# Altium integrated library Altera Megafunctions FPGA.IntLib: 91 symbols
Pins are listed as number, name and electrical type; pins without a type are passive.

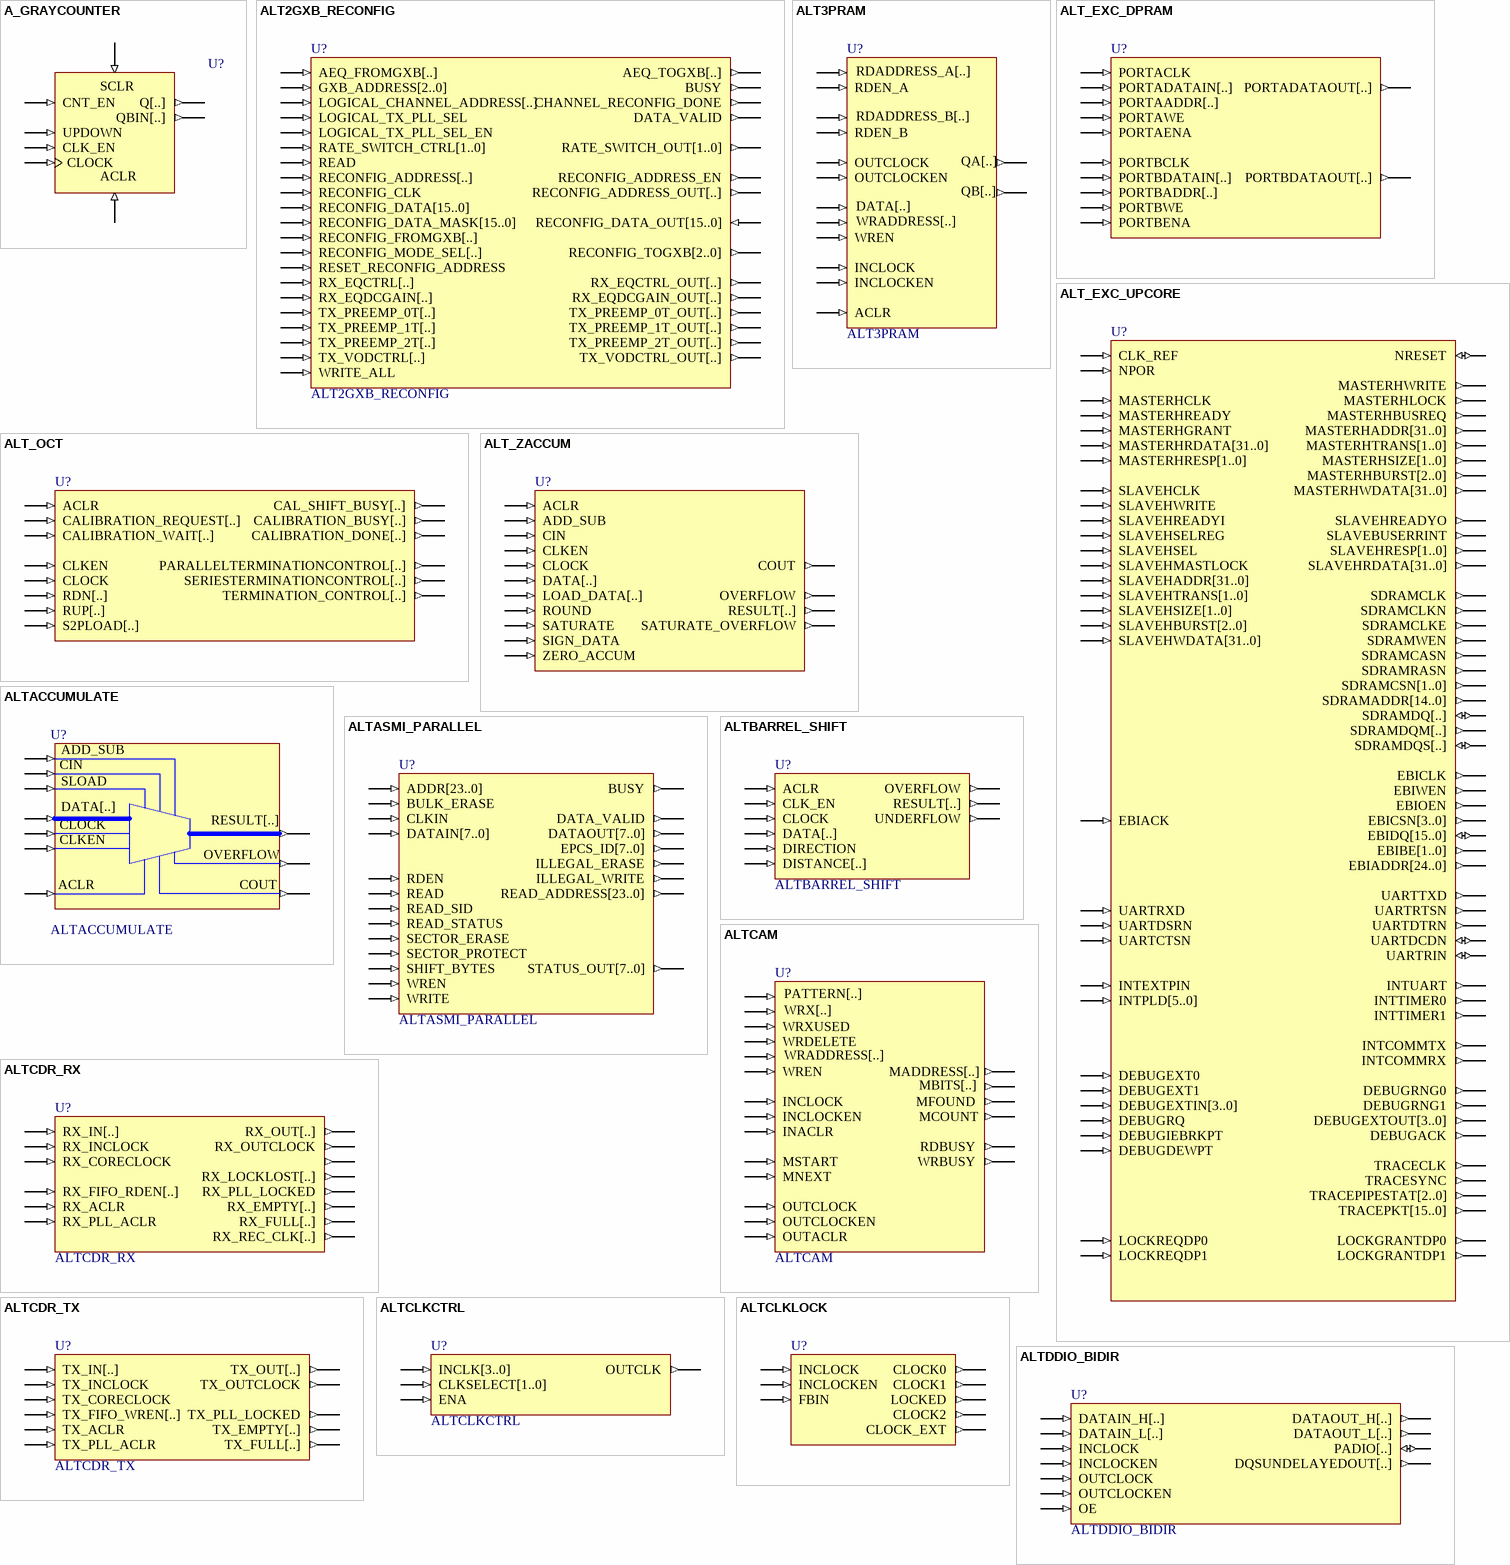
[diagram p0: symbols A_GRAYCOUNTER to ALTDDIO_BIDIR]

## A_GRAYCOUNTER
designator U?
Gray Counter; FPGAVendor: Altera; Published: 1-Jun-2007; Publisher: Altium Limited
pins: ACLR (in), CLK_EN (in), CLOCK (in), CNT_EN (in), Q[..] (out), QBIN[..] (out), SCLR (in), UPDOWN (in)

## ALT2GXB_RECONFIG
designator U?
GXB Reconfig; FPGAVendor: Altera; Published: 1-Jun-2007; Publisher: Altium Limited; HelpURL: http://www.altera.com/literature/hb/stx2gx/stxiigx_sii52006.pdf
pins: AEQ_FROMGXB[..] (in), AEQ_TOGXB[..] (out), BUSY (out), CHANNEL_RECONFIG_DONE (out), DATA_VALID (out), GXB_ADDRESS[2..0] (in), LOGICAL_CHANNEL_ADDRESS[..] (in), LOGICAL_TX_PLL_SEL (in), LOGICAL_TX_PLL_SEL_EN (in), LOGICAL_TX_PLL_SEL_EN[1..0] RATE_SWITCH_CTRL[1..0] (in), RATE_SWITCH_OUT[1..0] (out), READ (in), RECONFIG_ADDRESS[..] (in), RECONFIG_ADDRESS_EN (out), RECONFIG_ADDRESS_OUT[..] (out), RECONFIG_CLK (in), RECONFIG_DATA[15..0] (in), RECONFIG_DATA_MASK[15..0] (in), RECONFIG_DATA_OUT[15..0] (in), RECONFIG_FROMGXB[..] (in), RECONFIG_MODE_SEL[..] (in), RECONFIG_TOGXB[2..0] (out), RESET_RECONFIG_ADDRESS (in), RX_EQCTRL[..] (in), RX_EQCTRL_OUT[..] (out), RX_EQDCGAIN[..] (in), RX_EQDCGAIN_OUT[..] (out), TX_PREEMP_0T[..] (in), TX_PREEMP_0T_OUT[..] (out), TX_PREEMP_1T[..] (in), TX_PREEMP_1T_OUT[..] (out), TX_PREEMP_2T[..] (in), TX_PREEMP_2T_OUT[..] (out), TX_VODCTRL[..] (in), TX_VODCTRL_OUT[..] (out), WRITE_ALL (in)

## ALT3PRAM
designator U?
Triple port RAM; FPGAVendor: Altera; Published: 1-Jun-2007; Publisher: Altium Limited; HelpURL: http://www.altera.com/literature/hb/sgx/sgx_v3.pdf
pins: ACLR (in), DATA[..] (in), INCLOCK (in), INCLOCKEN (in), OUTCLOCK (in), OUTCLOCKEN (in), QA[WIDTH-1..0] QA[..] (out), QB[WIDTH-1..0] QB[..] (out), RDADDRESS_A[..] (in), RDADDRESS_B[..] (in), RDEN_A (in), RDEN_B (in), WRADDRESS[..] (in), WREN (in)

## ALT_EXC_DPRAM
designator U?
FPGAVendor: Altera; Published: 1-Jun-2007; Publisher: Altium Limited; HelpURL: HelpURL:HelpURL:http://www.altera.com/support/kdb/2002/06/rd06282002_6706.html
pins: PORTAADDR[..] (in), PORTACLK (in), PORTADATAIN[..] (in), PORTADATAOUT[..] (out), PORTAENA (in), PORTAWE (in), PORTBADDR[..] (in), PORTBCLK (in), PORTBDATAIN[..] (in), PORTBDATAOUT[..] (out), PORTBENA (in), PORTBWE (in)

## ALT_EXC_UPCORE
designator U?
Bus functional model instance; FPGAVendor: Altera; Published: 1-Jun-2007; Publisher: Altium Limited; HelpURL: http://www.altera.com/literature/ug/ug_bus_functional_model.pdf
pins: CLK_REF (in), DEBUGACK (out), DEBUGDEWPT (in), DEBUGEXT0 (in), DEBUGEXT1 (in), DEBUGEXTIN[3..0] (in), DEBUGEXTOUT[3..0] (out), DEBUGIEBRKPT (in), DEBUGRNG0 (out), DEBUGRNG1 (out), DEBUGRQ (in), EBIACK (in), EBIADDR[24..0] (out), EBIBE[1..0] (out), EBICLK (out), EBICSN[3..0] (out), EBIDQ[15..0] (io), EBIOEN (out), EBIWEN (out), INTCOMMRX (out), INTCOMMTX (out), INTEXTPIN (in), INTPLD[5..0] (in), INTTIMER0 (out), INTTIMER1 (out), INTUART (out), LOCKGRANTDP0 (out), LOCKGRANTDP1 (out), LOCKREQDP0 (in), LOCKREQDP1 (in), MASTERHADDR[31..0] (out), MASTERHBURST[2..0] (out), MASTERHBUSREQ (out), MASTERHCLK (in), MASTERHGRANT (in), MASTERHLOCK (out), MASTERHRDATA[31..0] (in), MASTERHREADY (in), MASTERHRESP[1..0] (in), MASTERHSIZE[1..0] (out), MASTERHTRANS[1..0] (out), MASTERHWDATA[31..0] (out), MASTERHWRITE (out), NPOR (in), NRESET (io), SDRAMADDR[14..0] (out), SDRAMCASN (out), SDRAMCLK (out), SDRAMCLKE (out), SDRAMCLKN (out), SDRAMCSN[1..0] (out), SDRAMDQ[..] (io), SDRAMDQM[..] (out), SDRAMDQS[..] (io), SDRAMRASN (out), SDRAMWEN (out), SLAVEBUSERRINT (out), SLAVEHADDR[31..0] (in), SLAVEHBURST[2..0] (in), SLAVEHCLK (in), SLAVEHMASTLOCK (in), SLAVEHRDATA[31..0] (out), SLAVEHREADYI (in), SLAVEHREADYO (out), SLAVEHRESP[1..0] (out), SLAVEHSEL (in), SLAVEHSELREG (in), SLAVEHSIZE[1..0] (in), SLAVEHTRANS[1..0] (in), SLAVEHWDATA[31..0] (in), SLAVEHWRITE (in), TRACECLK (out), TRACEPIPESTAT[2..0] (out), TRACEPKT[15..0] (out), TRACESYNC (out), UARTCTSN (in), UARTDCDN (io), UARTDSRN (in), UARTDTRN (out), UARTRIN (io), UARTRTSN (out), UARTRXD (in), UARTTXD (out)

## ALT_OCT
designator U?
On -Chip Termination; FPGAVendor: Altera; Published: 1-Jun-2007; Publisher: Altium Limited; HelpURL: http://www.altera.com/literature/ug/ALT_OCT.pdf
pins: ACLR (in), CAL_SHIFT_BUSY[..] (out), CALIBRATION_BUSY[..] (out), CALIBRATION_DONE[..] (out), CALIBRATION_REQUEST[..] (in), CALIBRATION_WAIT[..] (in), CLKEN (in), CLOCK (in), PARALLELTERMINATIONCONTROL[..] (out), RDN[..] (in), RUP[..] (in), S2PLOAD[..] (in), SERIESTERMINATIONCONTROL[..] (out), TERMINATION_CONTROL[..] (out)

## ALT_ZACCUM
designator U?
ALT_ZACCUM; FPGAVendor: Altera; Published: 1-Jun-2007; Publisher: Altium Limited
pins: ACLR (in), ADD_SUB (in), CIN (in), CLKEN (in), CLOCK (in), COUT (out), DATA[..] (in), LOAD_DATA[..] (in), OVERFLOW (out), RESULT[..] (out), ROUND (in), SATURATE (in), SATURATE_OVERFLOW (out), SIGN_DATA (in), ZERO_ACCUM (in)

## ALTACCUMULATE
designator U?
Accumulator; FPGAVendor: Altera; Published: 1-Jun-2007; Publisher: Altium Limited; HelpURL: http://www.altera.com/literature/ug/ug_altaccum.pdf
pins: ACLR (in), ADD_SUB (in), CIN (in), CLKEN (in), CLOCK (in), COUT (out), DATA[..] (in), OVERFLOW (out), RESULT[..] (out), SLOAD (in)

## ALTASMI_PARALLEL
designator U?
Active Serial Memory Interface; FPGAVendor: Altera; Published: 1-Jun-2007; Publisher: Altium Limited; HelpURL: http://www.altera.com/literature/ug/mfug_asmi.pdf
pins: ADDR[23..0] (in), BULK_ERASE (in), BUSY (out), CLKIN (in), DATA_VALID (out), DATAIN[7..0] (in), DATAOUT[7..0] (out), EPCS_ID[7..0] (out), ILLEGAL_ERASE (out), ILLEGAL_WRITE (out), RDEN (in), READ (in), READ_ADDRESS[23..0] (out), READ_SID (in), READ_STATUS (in), SECTOR_ERASE (in), SECTOR_PROTECT (in), SHIFT_BYTES (in), STATUS_OUT[7..0] (out), WREN (in), WRITE (in)

## ALTBARREL_SHIFT
designator U?
Barrel Shifter; FPGAVendor: Altera; Published: 1-Jun-2007; Publisher: Altium Limited
pins: ACLR (in), CLK_EN (in), CLOCK (in), DATA[..] (in), DIRECTION (in), DISTANCE[..] (in), OVERFLOW (out), RESULT[..] (out), UNDERFLOW (out)

## ALTCAM
designator U?
Content - Addressable Memory; FPGAVendor: Altera; Published: 1-Jun-2007; Publisher: Altium Limited; HelpURL: http://www.altera.com/support/software/nativelink/quartus2/glossary/def_cam.html
pins: INACLR (in), INCLOCK (in), INCLOCKEN (in), MADDRESS[..] (out), MBITS[..] (out), MCOUNT[..] (out), MFOUND (out), MNEXT (in), MSTART (in), OUTACLR (in), OUTCLOCK (in), OUTCLOCKEN (in), PATTERN[..] (in), RDBUSY (out), WRADDRESS[..] (in), WRBUSY (out), WRDELETE (in), WREN (in), WRX[..] (in), WRXUSED (in)
text: MCOUNT

## ALTCDR_RX
designator U?
Clock Data Recovery Receiver; FPGAVendor: Altera; Published: 1-Jun-2007; Publisher: Altium Limited; HelpURL: http://www.altera.com/support/software/nativelink/verification/conformal/eda_gid_lec_fv.html
pins: RX_ACLR (in), RX_CORECLOCK (in), RX_EMPTY[..] (out), RX_FIFO_RDEN[..] (in), RX_FULL[..] (out), RX_IN[..] (in), RX_INCLOCK (in), RX_LOCKLOST[..] (out), RX_OUT[..] (out), RX_OUTCLOCK (out), RX_PLL_ACLR (in), RX_PLL_LOCKED (out), RX_REC_CLK[..] (out), RX_RLV[..] (out)

## ALTCDR_TX
designator U?
Clock Data Recovery Transmitter; FPGAVendor: Altera; Published: 1-Jun-2007; Publisher: Altium Limited; HelpURL: http://www.altera.com/support/software/nativelink/verification/conformal/eda_gid_lec_fv.html
pins: TX_ACLR (in), TX_CORECLOCK (in), TX_EMPTY[..] (out), TX_FIFO_WREN[..] (in), TX_FULL[..] (out), TX_IN[..] (in), TX_INCLOCK (in), TX_OUT[..] (out), TX_OUTCLOCK (out), TX_PLL_ACLR (in), TX_PLL_LOCKED (out)

## ALTCLKCTRL
designator U?
Clock control block; FPGAVendor: Altera; Published: 1-Jun-2007; Publisher: Altium Limited; HelpURL: http://www.altera.com/literature/ug/ug_altclock.pdf
pins: CLKSELECT[1..0] (in), ENA (in), INCLK[3..0] (in), OUTCLK (out)

## ALTCLKLOCK
designator U?
Phase-Locked Loop; FPGAVendor: Altera; Published: 1-Jun-2007; Publisher: Altium Limited; HelpURL: http://www.altera.com/literature/hb/stx/stratix_section_5_vol_2.pdf
pins: CLOCK0 (out), CLOCK1 (out), CLOCK2 (out), CLOCK_EXT (out), FBIN (in), INCLOCK (in), INCLOCKEN (in), LOCKED (out)

## ALTDDIO_BIDIR
designator U?
DDR Bidirectional; FPGAVendor: Altera; Published: 1-Jun-2007; Publisher: Altium Limited; HelpURL: http://www.altera.com/literature/ug/ug_altddio.pdf
pins: DATAIN_H[..] (in), DATAIN_L[..] (in), DATAOUT_H[..] (out), DATAOUT_L[..] (out), DQSUNDELAYEDOUT[..] (out), INCLOCK (in), INCLOCKEN (in), OE (in), OUTCLOCK (in), OUTCLOCKEN (in), PADIO[..] (io)

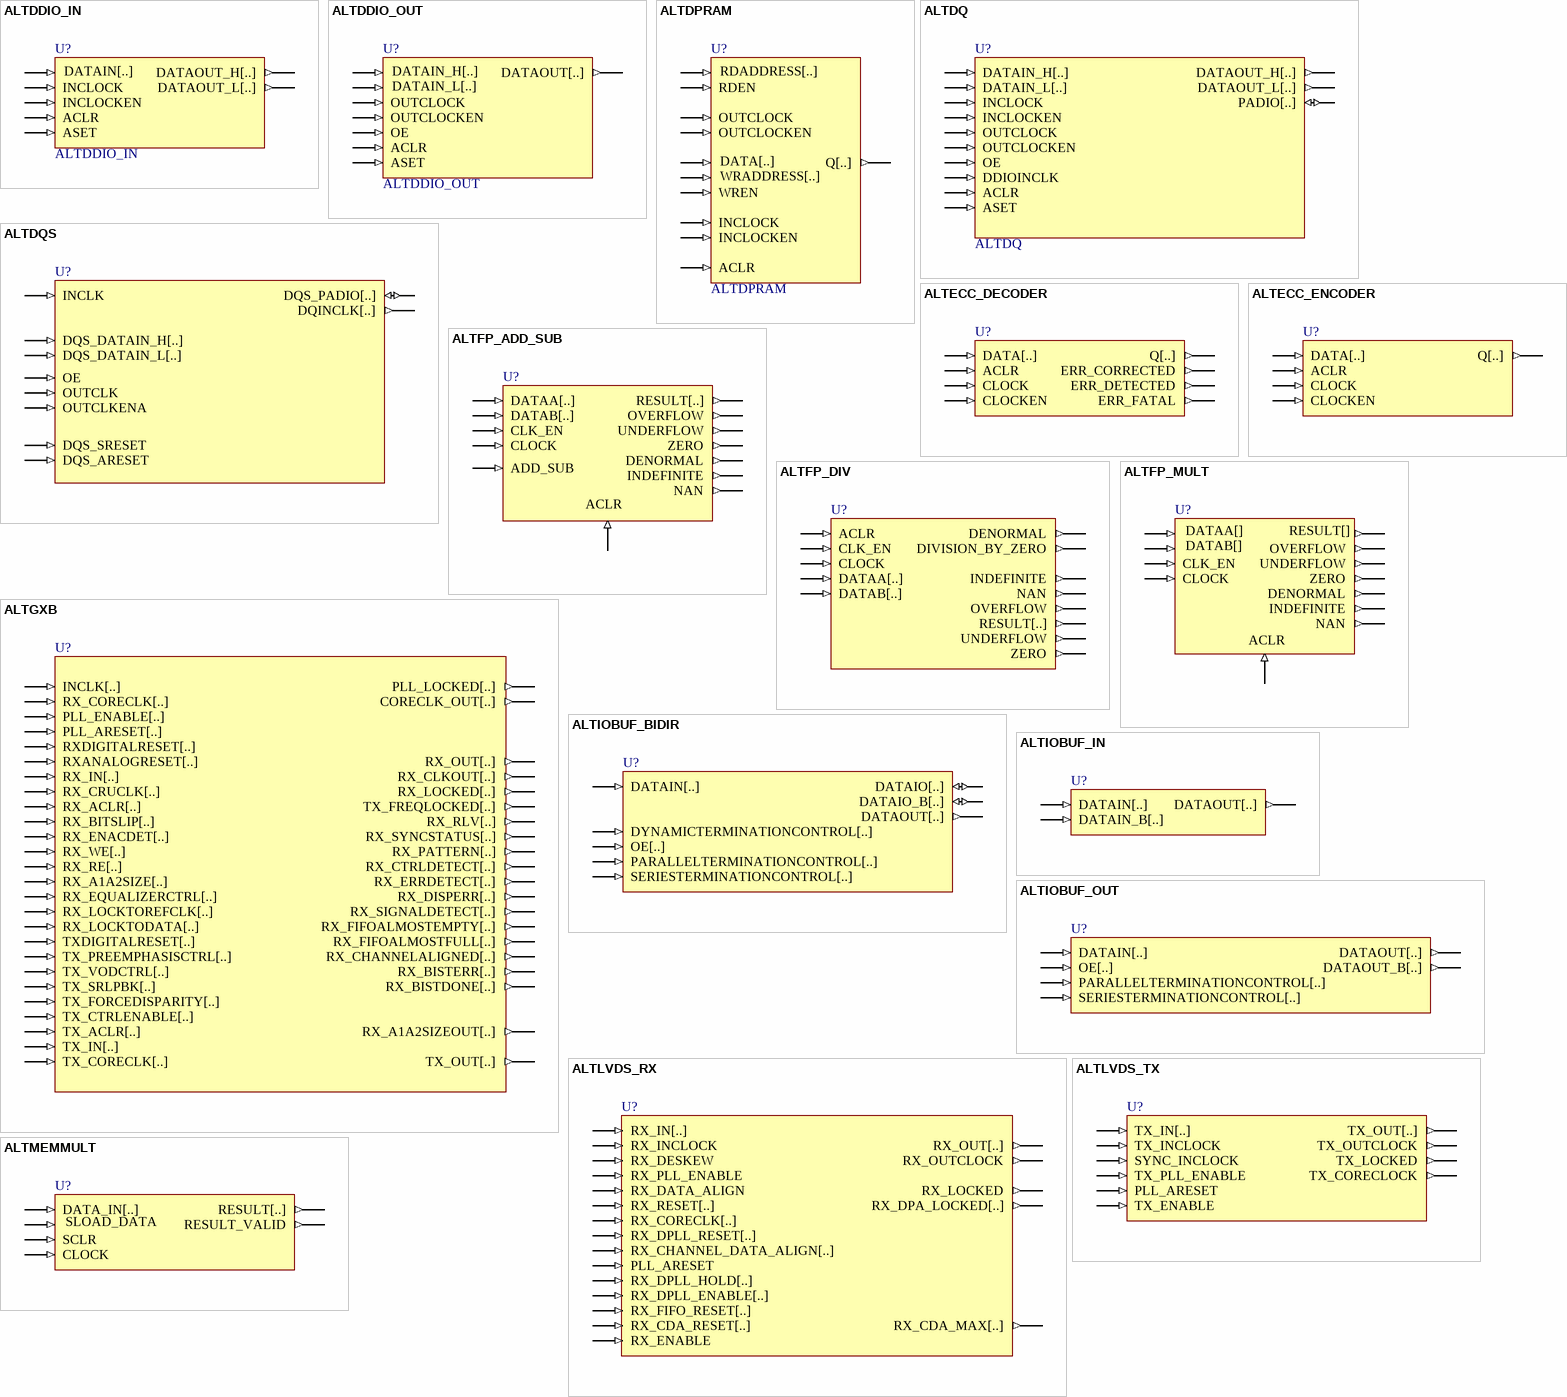
[diagram p1: symbols ALTDDIO_IN to ALTMEMMULT]

## ALTDDIO_IN
designator U?
DDR Input; FPGAVendor: Altera; Published: 1-Jun-2007; Publisher: Altium Limited; HelpURL: http://www.altera.com/literature/ug/ug_altddio.pdf
pins: ACLR (in), ASET (in), DATAIN[..] (in), DATAOUT_H[..] (out), DATAOUT_L[..] (out), INCLOCK (in), INCLOCKEN (in)

## ALTDDIO_OUT
designator U?
DDR Output; FPGAVendor: Altera; Published: 1-Jun-2007; Publisher: Altium Limited; HelpURL: http://www.altera.com/literature/ug/ug_altddio.pdf
pins: ACLR (in), ASET (in), DATAIN_H[..] (in), DATAIN_L[..] (in), DATAOUT[..] (out), OE (in), OUTCLOCK (in), OUTCLOCKEN (in)

## ALTDPRAM
designator U?
Dual-Port RAM; FPGAVendor: Altera; Published: 1-Jun-2007; Publisher: Altium Limited; HelpURL: http://www.altera.com/support/software/nativelink/verification/conformal/eda_gid_lec_fv.html
pins: ACLR (in), DATA[..] (in), INCLOCK (in), INCLOCKEN (in), OUTCLOCK (in), OUTCLOCKEN (in), Q[..] (out), RDADDRESS[..] (in), RDEN (in), WRADDRESS[..] (in), WREN (in)

## ALTDQ
designator U?
To configure the Double Data Rate I/O elements in Stratix and cycone II devices; FPGAVendor: Altera; Published: 1-Jun-2007; Publisher: Altium Limited; HelpURL: http://www.altera.com/literature/ug/ug_altdq_dqs.pdf
pins: ACLR (in), ASET (in), DATAIN_H[..] (in), DATAIN_L[..] (in), DATAOUT_H[..] (out), DATAOUT_L[..] (out), DDIOINCLK (in), INCLOCK (in), INCLOCKEN (in), OE (in), OUTCLOCK (in), OUTCLOCKEN (in), PADIO[..] (io)

## ALTDQS
designator U?
To configure the I/O elements as a DQ strobe in Stratix and cycone II devices; FPGAVendor: Altera; Published: 1-Jun-2007; Publisher: Altium Limited; HelpURL: http://www.altera.com/literature/ug/ug_altdq_dqs.pdf
pins: DQINCLK[..] (out), DQS_ARESET (in), DQS_DATAIN_H[..] (in), DQS_DATAIN_L[..] (in), DQS_PADIO[..] (io), DQS_SRESET (in), INCLK (in), OE (in), OUTCLK (in), OUTCLKENA (in)

## ALTECC_DECODER
designator U?
Error Correction Code Decoder; FPGAVendor: Altera; Published: 1-Jun-2007; Publisher: Altium Limited; HelpURL: http://www.altera.com/literature/ug/ug_altecc.pdf
pins: ACLR (in), CLOCK (in), CLOCKEN (in), DATA[..] (in), ERR_CORRECTED (out), ERR_DETECTED (out), ERR_FATAL (out), Q[..] (out)

## ALTECC_ENCODER
designator U?
Error Correction Code Encoder; FPGAVendor: Altera; Published: 1-Jun-2007; Publisher: Altium Limited; HelpURL: http://www.altera.com/literature/ug/ug_altecc.pdf
pins: ACLR (in), CLOCK (in), CLOCKEN (in), DATA[..] (in), Q[..] (out)

## ALTFP_ADD_SUB
designator U?
Floating point Adder/Subractor; FPGAVendor: Altera; Published: 1-Jun-2007; Publisher: Altium Limited; HelpURL: http://www.altera.com/literature/ug/ug_altfp_adsub.pdf
pins: ACLR (in), ADD_SUB (in), CLK_EN (in), CLOCK (in), DATAA[..] (in), DATAB[..] (in), DENORMAL (out), INDEFINITE (out), NAN (out), OVERFLOW (out), RESULT[..] (out), UNDERFLOW (out), ZERO (out)

## ALTFP_DIV
designator U?
Divion Function; FPGAVendor: Altera; Published: 1-Jun-2007; Publisher: Altium Limited; HelpURL: http://www.altera.com/literature/ug/ug_altfp_div.pdf
pins: ACLR (in), CLK_EN (in), CLOCK (in), DATAA[..] (in), DATAB[..] (in), DENORMAL (out), DIVISION_BY_ZERO (out), INDEFINITE (out), NAN (out), OVERFLOW (out), RESULT[..] (out), UNDERFLOW (out), ZERO (out)

## ALTFP_MULT
designator U?
Floating point Multiplier; FPGAVendor: Altera; Published: 1-Jun-2007; Publisher: Altium Limited; HelpURL: http://www.altera.com/support/software/nativelink/verification/conformal/eda_gid_lec_fv.html
pins: ACLR (in), CLK_EN (in), CLOCK (in), DATAA[..] (in), DATAB[..] (in), DENORMAL (out), INDEFINITE (out), NAN (out), OVERFLOW (out), RESULT[..] (out), UNDERFLOW (out), ZERO (out)
text: DATAA[]; RESULT[]; DATAB[]

## ALTGXB
designator U?
Gigabit Transceiver Block; FPGAVendor: Altera; Published: 1-Jun-2007; Publisher: Altium Limited; HelpURL: http://www.altera.com/support/software/nativelink/verification/conformal/eda_gid_lec_fv.html
pins: CORECLK_OUT[..] (out), INCLK[..] (in), PLL_ARESET[..] (in), PLL_ENABLE[..] (in), PLL_LOCKED[..] (out), RX_A1A2SIZE[..] (in), RX_A1A2SIZEOUT[..] (out), RX_ACLR[..] (in), RX_BISTDONE[..] (out), RX_BISTERR[..] (out), RX_BITSLIP[..] (in), RX_CHANNELALIGNED[..] (out), RX_CLKOUT[..] (out), RX_CORECLK[..] (in), RX_CRUCLK[..] (in), RX_CTRLDETECT[..] (out), RX_DISPERR[..] (out), RX_ENACDET[..] (in), RX_EQUALIZERCTRL[..] (in), RX_ERRDETECT[..] (out), RX_FIFOALMOSTEMPTY[..] (out), RX_FIFOALMOSTFULL[..] (out), RX_IN[..] (in), RX_LOCKED[..] (out), RX_LOCKTODATA[..] (in), RX_LOCKTOREFCLK[..] (in), RX_OUT[..] (out), RX_PATTERN[..] (out), RX_RE[..] (in), RX_RLV[..] (out), RX_SIGNALDETECT[..] (out), RX_SYNCSTATUS[..] (out), RX_WE[..] (in), RXANALOGRESET[..] (in), RXDIGITALRESET[..] (in), TX_ACLR[..] (in), TX_CORECLK[..] (in), TX_CTRLENABLE[..] (in), TX_FORCEDISPARITY[..] (in), TX_FREQLOCKED[..] (out), TX_IN[..] (in), TX_OUT[..] (out), TX_PREEMPHASISCTRL[..] (in), TX_SRLPBK[..] (in), TX_VODCTRL[..] (in), TXDIGITALRESET[..] (in)

## ALTIOBUF_BIDIR
designator U?
IO Buffer; FPGAVendor: Altera; Published: 1-Jun-2007; Publisher: Altium Limited
pins: DATAIN[..] (in), DATAIO[..] (io), DATAIO_B[..] (io), DATAOUT[..] (out), DYNAMICTERMINATIONCONTROL[..] (in), OE[..] (in), PARALLELTERMINATIONCONTROL[..] (in), SERIESTERMINATIONCONTROL[..] (in)

## ALTIOBUF_IN
designator U?
Input Buffer; FPGAVendor: Altera; Published: 1-Jun-2007; Publisher: Altium Limited
pins: DATAIN[..] (in), DATAIN_B[..] (in), DATAOUT[..] (out)

## ALTIOBUF_OUT
designator U?
Input Buffer; FPGAVendor: Altera; Published: 1-Jun-2007; Publisher: Altium Limited
pins: DATAIN[..] (in), DATAOUT[..] (out), DATAOUT_B[..] (out), OE[..] (in), PARALLELTERMINATIONCONTROL[..] (in), SERIESTERMINATIONCONTROL[..] (in)

## ALTLVDS_RX
designator U?
LVDS Receiver; FPGAVendor: Altera; Published: 1-Jun-2007; Publisher: Altium Limited; HelpURL: http://www.altera.com/literature/ug/ug_IP_LVDS_IO.pdf
pins: PLL_ARESET (in), RX_CDA_MAX[..] (out), RX_CDA_RESET[..] (in), RX_CHANNEL_DATA_ALIGN[..] (in), RX_CORECLK[..] (in), RX_DATA_ALIGN (in), RX_DESKEW (in), RX_DPA_LOCKED[..] (out), RX_DPLL_ENABLE[..] (in), RX_DPLL_HOLD[..] (in), RX_DPLL_RESET[..] (in), RX_ENABLE (in), RX_FIFO_RESET[..] (in), RX_IN[..] (in), RX_INCLOCK (in), RX_LOCKED (out), RX_OUT[..] (out), RX_OUTCLOCK (out), RX_PLL_ENABLE (in), RX_RESET[..] (in)

## ALTLVDS_TX
designator U?
LVDS Transmitter; FPGAVendor: Altera; Published: 1-Jun-2007; Publisher: Altium Limited; HelpURL: http://www.altera.com/literature/ug/ug_IP_LVDS_IO.pdf
pins: PLL_ARESET (in), SYNC_INCLOCK (in), TX_CORECLOCK (out), TX_ENABLE (in), TX_IN[..] (in), TX_INCLOCK (in), TX_LOCKED (out), TX_OUT[..] (out), TX_OUTCLOCK (out), TX_PLL_ENABLE (in)

## ALTMEMMULT
designator U?
Multipier using M4K or M512 Memory Blocks; FPGAVendor: Altera; Published: 1-Jun-2007; Publisher: Altium Limited; HelpURL: http://www.altera.com/literature/ug/ug_altmemmult.pdf
pins: CLOCK (in), DATA_IN[..] (in), RESULT[..] (out), RESULT_VALID (out), SCLR (in), SLOAD_DATA (in)

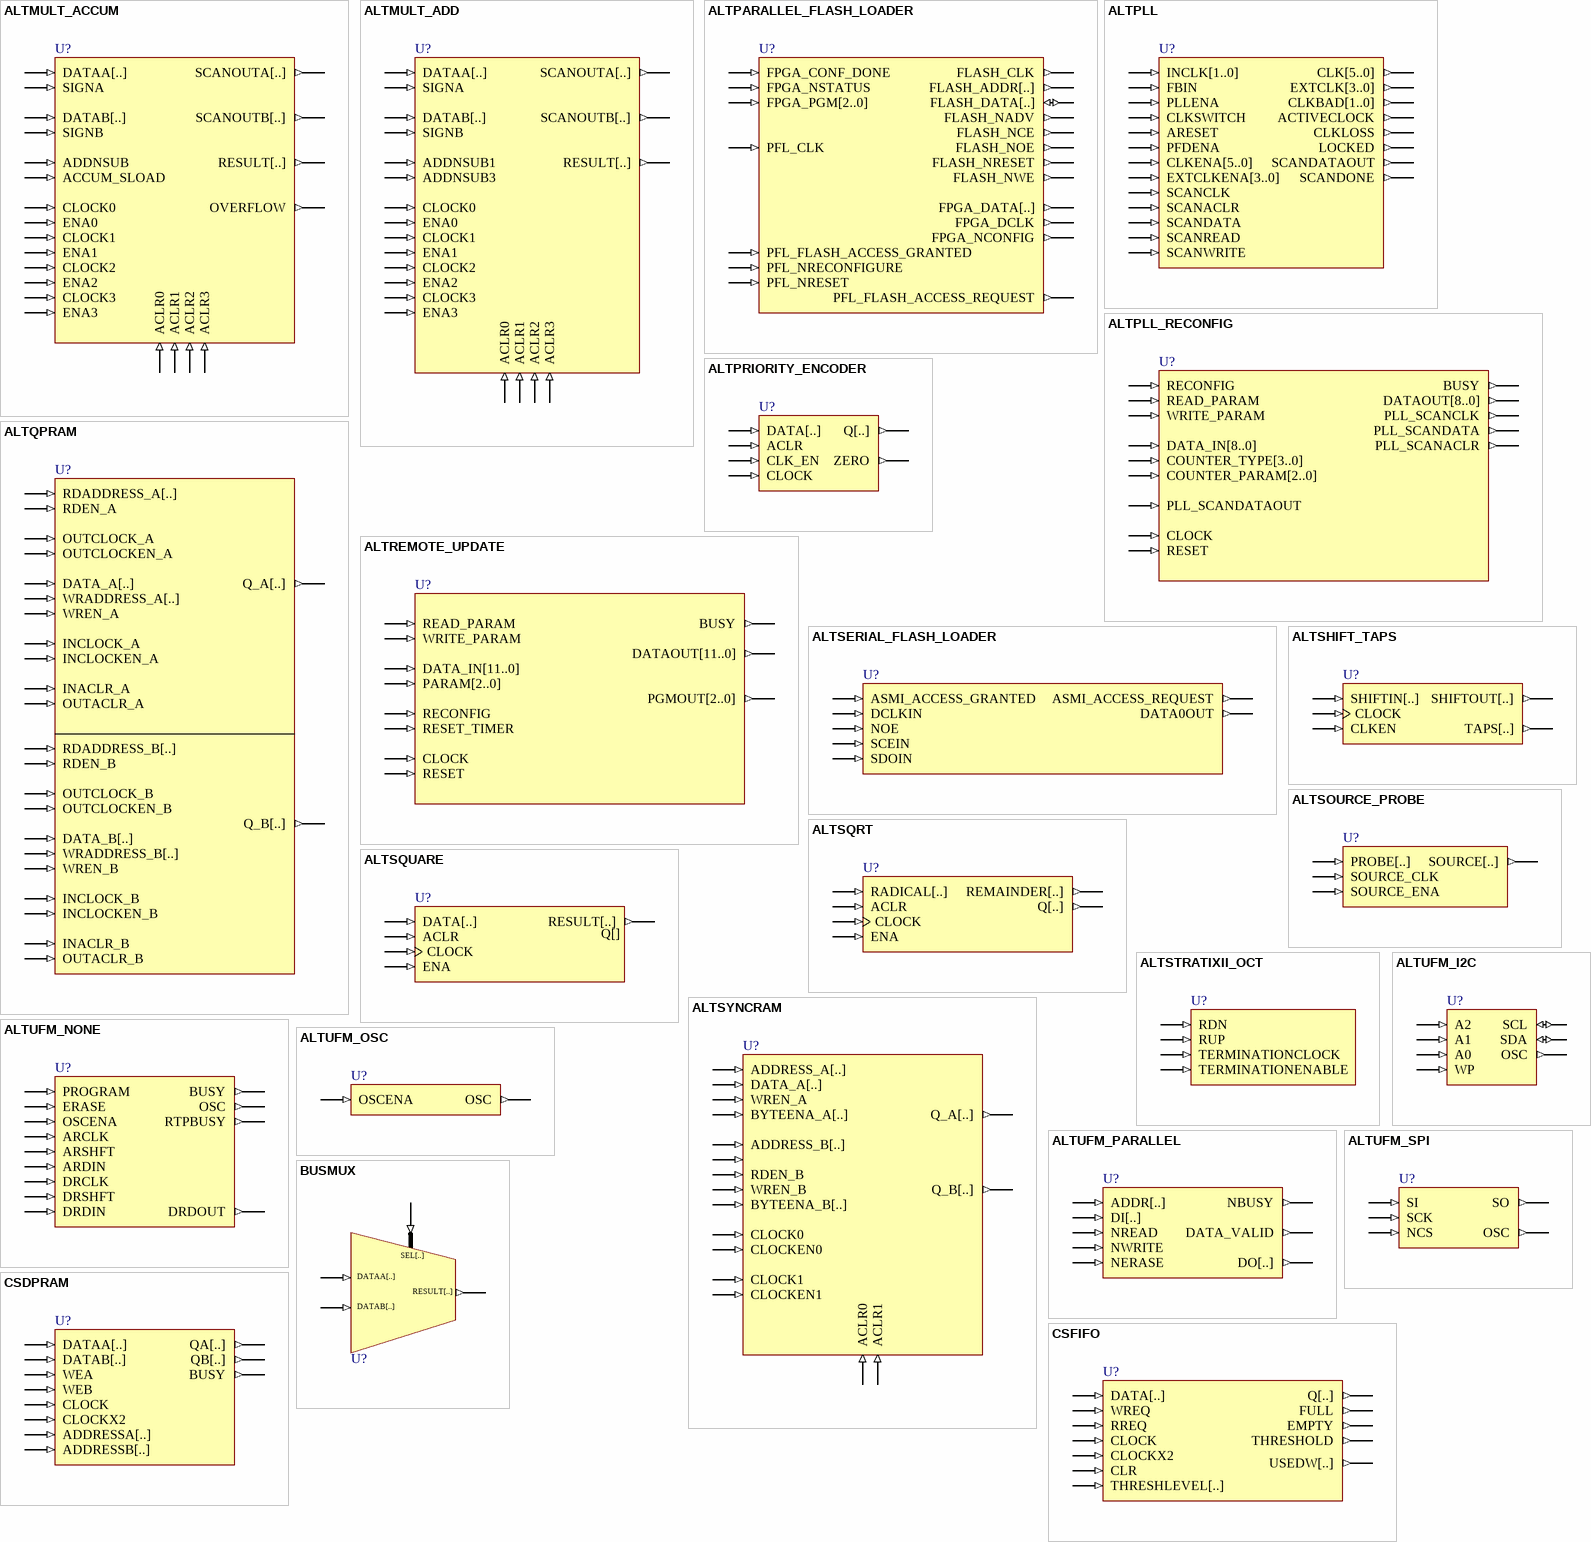
[diagram p2: symbols ALTMULT_ACCUM to CSFIFO]

## ALTMULT_ACCUM
designator U?
Multiply Accumulate; FPGAVendor: Altera; Published: 1-Jun-2007; Publisher: Altium Limited; HelpURL: http://www.altera.com/literature/hb/stx/stratix_section_5_vol_2.pdf
pins: ACCUM_SLOAD (in), ACLR0 (in), ACLR1 (in), ACLR2 (in), ACLR3 (in), ADDNSUB (in), CLOCK0 (in), CLOCK1 (in), CLOCK2 (in), CLOCK3 (in), DATAA[..] (in), DATAB[..] (in), ENA0 (in), ENA1 (in), ENA2 (in), ENA3 (in), OVERFLOW (out), RESULT[..] (out), SCANOUTA[..] (out), SCANOUTB[..] (out), SIGNA (in), SIGNB (in)

## ALTMULT_ADD
designator U?
Implements Adder/Multiplier with greater complexity; FPGAVendor: Altera; Published: 1-Jun-2007; Publisher: Altium Limited; HelpURL: http://www.altera.com/literature/ug/ug_altmult_add.pdf
pins: ACLR0 (in), ACLR1 (in), ACLR2 (in), ACLR3 (in), ADDNSUB1 (in), ADDNSUB3 (in), CLOCK0 (in), CLOCK1 (in), CLOCK2 (in), CLOCK3 (in), DATAA[..] (in), DATAB[..] (in), ENA0 (in), ENA1 (in), ENA2 (in), ENA3 (in), RESULT[..] (out), SCANOUTA[..] (out), SCANOUTB[..] (out), SIGNA (in), SIGNB (in)

## ALTPARALLEL_FLASH_LOADER
designator U?
Parallel Flash Loader; FPGAVendor: Altera; Published: 1-Jun-2007; Publisher: Altium Limited
pins: FLASH_ADDR[..] (out), FLASH_CLK (out), FLASH_DATA[..] (io), FLASH_NADV (out), FLASH_NCE (out), FLASH_NOE (out), FLASH_NRESET (out), FLASH_NWE (out), FPGA_CONF_DONE (in), FPGA_DATA[..] (out), FPGA_DCLK (out), FPGA_NCONFIG (out), FPGA_NSTATUS (in), FPGA_PGM[2..0] (in), PFL_CLK (in), PFL_FLASH_ACCESS_GRANTED (in), PFL_FLASH_ACCESS_REQUEST (out), PFL_NRECONFIGURE (in), PFL_NRESET (in)

## ALTPLL
designator U?
Configures PLL; FPGAVendor: Altera; Published: 1-Jun-2007; Publisher: Altium Limited; HelpURL: http://www.altera.com/literature/ug/ug_altpll.pdf
pins: ACTIVECLOCK (out), ARESET (in), CLK[5..0] (out), CLKBAD[1..0] (out), CLKENA[5..0] (in), CLKLOSS (out), CLKSWITCH (in), EXTCLK[3..0] (out), EXTCLKENA[3..0] (in), FBIN (in), INCLK[1..0] (in), LOCKED (out), PFDENA (in), PLLENA (in), SCANACLR (in), SCANCLK (in), SCANDATA (in), SCANDATAOUT (out), SCANDONE (out), SCANREAD (in), SCANWRITE (in)

## ALTPLL_RECONFIG
designator U?
Reconfiguration Logic; FPGAVendor: Altera; Published: 1-Jun-2007; Publisher: Altium Limited; HelpURL: http://www.altera.com/literature/ug/ug_altpll_reconfig.pdf
pins: BUSY (out), CLOCK (in), COUNTER_PARAM[2..0] (in), COUNTER_TYPE[3..0] (in), DATA_IN[8..0] (in), DATAOUT[8..0] (out), PLL_SCANACLR (out), PLL_SCANCLK (out), PLL_SCANDATA (out), PLL_SCANDATAOUT (in), READ_PARAM (in), RECONFIG (in), RESET (in), WRITE_PARAM (in)

## ALTPRIORITY_ENCODER
designator U?
Priority Encoder; FPGAVendor: Altera; Published: 1-Jun-2007; Publisher: Altium Limited
pins: ACLR (in), CLK_EN (in), CLOCK (in), DATA[..] (in), Q[..] (out), ZERO (out)

## ALTQPRAM
designator U?
Quad-Port RAM; FPGAVendor: Altera; Published: 1-Jun-2007; Publisher: Altium Limited; HelpURL: http://www.altera.com/literature/hb/stx/stratix_section_5_vol_2.pdf
pins: DATA_A[..] (in), DATA_B[..] (in), INACLR_A (in), INACLR_B (in), INCLOCK_A (in), INCLOCK_B (in), INCLOCKEN_A (in), INCLOCKEN_B (in), OUTACLR_A (in), OUTACLR_B (in), OUTCLOCK_A (in), OUTCLOCK_B (in), OUTCLOCKEN_A (in), OUTCLOCKEN_B (in), Q_A[..] (out), Q_B[..] (out), RDADDRESS_A[..] (in), RDADDRESS_B[..] (in), RDEN_A (in), RDEN_B (in), WRADDRESS_A[..] (in), WRADDRESS_B[..] (in), WREN_A (in), WREN_B (in)

## ALTREMOTE_UPDATE
designator U?
Remote update functions; FPGAVendor: Altera; Published: 1-Jun-2007; Publisher: Altium Limited; HelpURL: http://www.altera.com/literature/ug/ug_altremote.pdf
pins: BUSY (out), CLOCK (in), DATA_IN[11..0] (in), DATAOUT[11..0] (out), PARAM[2..0] (in), PGMOUT[2..0] (out), READ_PARAM (in), RECONFIG (in), RESET (in), RESET_TIMER (in), WRITE_PARAM (in)

## ALTSERIAL_FLASH_LOADER
designator U?
Serial Flash Loader; FPGAVendor: Altera; Published: 1-Jun-2007; Publisher: Altium Limited
pins: ASMI_ACCESS_GRANTED (in), ASMI_ACCESS_REQUEST (out), DATA0OUT (out), DCLKIN (in), NOE (in), SCEIN (in), SDOIN (in)

## ALTSHIFT_TAPS
designator U?
Shift Register With Taps; FPGAVendor: Altera; Published: 1-Jun-2007; Publisher: Altium Limited; HelpURL: http://www.altera.com/support/software/nativelink/verification/conformal/eda_gid_lec_fv.html
pins: CLKEN (in), CLOCK (in), SHIFTIN[..] (in), SHIFTOUT[..] (out), TAPS[..] (out)

## ALTSOURCE_PROBE
designator U?
Source Probe; FPGAVendor: Altera; Published: 1-Jun-2007; Publisher: Altium Limited
pins: PROBE[..] (in), SOURCE[..] (out), SOURCE_CLK (in), SOURCE_ENA (in)

## ALTSQRT
designator U?
Square Root function; FPGAVendor: Altera; Published: 1-Jun-2007; Publisher: Altium Limited; HelpURL: http://www.altera.com/literature/ug/ug_altsqrt_mf.pdf
pins: ACLR (in), CLOCK (in), ENA (in), Q[..] (out), RADICAL[..] (in), REMAINDER[..] (out)

## ALTSQUARE
designator U?
Squarer; FPGAVendor: Altera; Note: see Quartus Help; Published: 1-Jun-2007; Publisher: Altium Limited
pins: ACLR (in), CLOCK (in), DATA[..] (in), ENA (in), RESULT[..] (out)
text: Q[]

## ALTSTRATIXII_OCT
designator U?
On -Chip Termination; FPGAVendor: Altera; Published: 1-Jun-2007; Publisher: Altium Limited
pins: RDN (in), RUP (in), TERMINATIONCLOCK (in), TERMINATIONENABLE (in)

## ALTSYNCRAM
designator U?
True Dual -Port SynchronousRAM; FPGAVendor: Altera; Published: 1-Jun-2007; Publisher: Altium Limited; HelpURL: http://www.altera.com/literature/hb/stx/stratix_section_5_vol_2.pdf
pins: ACLR0 (in), ACLR1 (in), ADDRES_A[..] ADDRESS_A[..] (in), ADDRESS_B[..] (in), BYTEENA_A[..] (in), BYTEENA_B[..] (in), CLOCK0 (in), CLOCK1 (in), CLOCKEN0 (in), CLOCKEN1 (in), DATA_A[..] (in), DATA_B[..] (in), Q_A[..] (out), Q_B[..] (out), RDEN_B (in), WREN_A (in), WREN_B (in)

## ALTUFM_I2C
designator U?
Inter - Integrated circuit Interface Protocols - User Flash Memory; FPGAVendor: Altera; Published: 1-Jun-2007; Publisher: Altium Limited; HelpURL: http://www.altera.com/literature/ug/ug_alt_ufm.pdf
pins: A0 (in), A1 (in), A2 (in), OSC (out), SCL (io), SDA (io), WP (in)

## ALTUFM_NONE
designator U?
No Interface Protocols -  User Flash Memory; FPGAVendor: Altera; Published: 1-Jun-2007; Publisher: Altium Limited; HelpURL: http://www.altera.com/literature/ug/ug_alt_ufm.pdf
pins: ARCLK (in), ARDIN (in), ARSHFT (in), BUSY (out), DRCLK (in), DRDIN (in), DRDOUT (out), DRSHFT (in), ERASE (in), OSC (out), OSCENA (in), PROGRAM (in), RTPBUSY (out)

## ALTUFM_OSC
designator U?
Oscillator; FPGAVendor: Altera; Note: See Quartus Help; Published: 1-Jun-2007; Publisher: Altium Limited
pins: OSC (out), OSCENA (in)

## ALTUFM_PARALLEL
designator U?
Parallel Interface Protocols -  User Flash Memory; FPGAVendor: Altera; Published: 1-Jun-2007; Publisher: Altium Limited; HelpURL: http://www.altera.com/literature/ug/ug_alt_ufm.pdf
pins: ADDR[..] (in), DATA_VALID (out), DI[..] (in), DO[..] (out), NBUSY (out), NERASE (in), NREAD (in), NWRITE (in)

## ALTUFM_SPI
designator U?
SPI Interface Protocols -  User Flash Memory; FPGAVendor: Altera; Published: 1-Jun-2007; Publisher: Altium Limited; HelpURL: http://www.altera.com/literature/ug/ug_alt_ufm.pdf
pins: NCS (in), OSC (out), SCK (in), SI (in), SO (out)

## BUSMUX
designator U?
Multiplexer; FPGAVendor: Altera; Published: 1-Jun-2007; Publisher: Altium Limited; HelpURL: http://www.altera.com/support/kdb/1998/11/rd11031998_9606.html
pins: DATAA[..] (in), DATAB[..] (in), RESULT[..] (out), SEL[..] (in)

## CSDPRAM
designator U?
Cycle Shared Dual-Port RAM; FPGAVendor: Altera; Published: 1-Jun-2007; Publisher: Altium Limited; HelpURL: http://www.altera.com/support/examples/exm-memory.html
pins: ADDRESSA[..] (in), ADDRESSB[..] (in), BUSY (out), CLOCK (in), CLOCKX2 (in), DATAA[..] (in), DATAB[..] (in), QA[..] (out), QB[..] (out), WEA (in), WEB (in)

## CSFIFO
designator U?
Cycle Shared FIFO; FPGAVendor: Altera; Published: 1-Jun-2007; Publisher: Altium Limited; HelpURL: http://www.altera.com/support/examples/exm-memory.html
pins: CLOCK (in), CLOCKX2 (in), CLR (in), DATA[..] (in), EMPTY (out), FULL (out), Q[..] (out), RREQ (in), THRESHLEVEL[..] (in), THRESHOLD (out), USEDW[..] (out), WREQ (in)

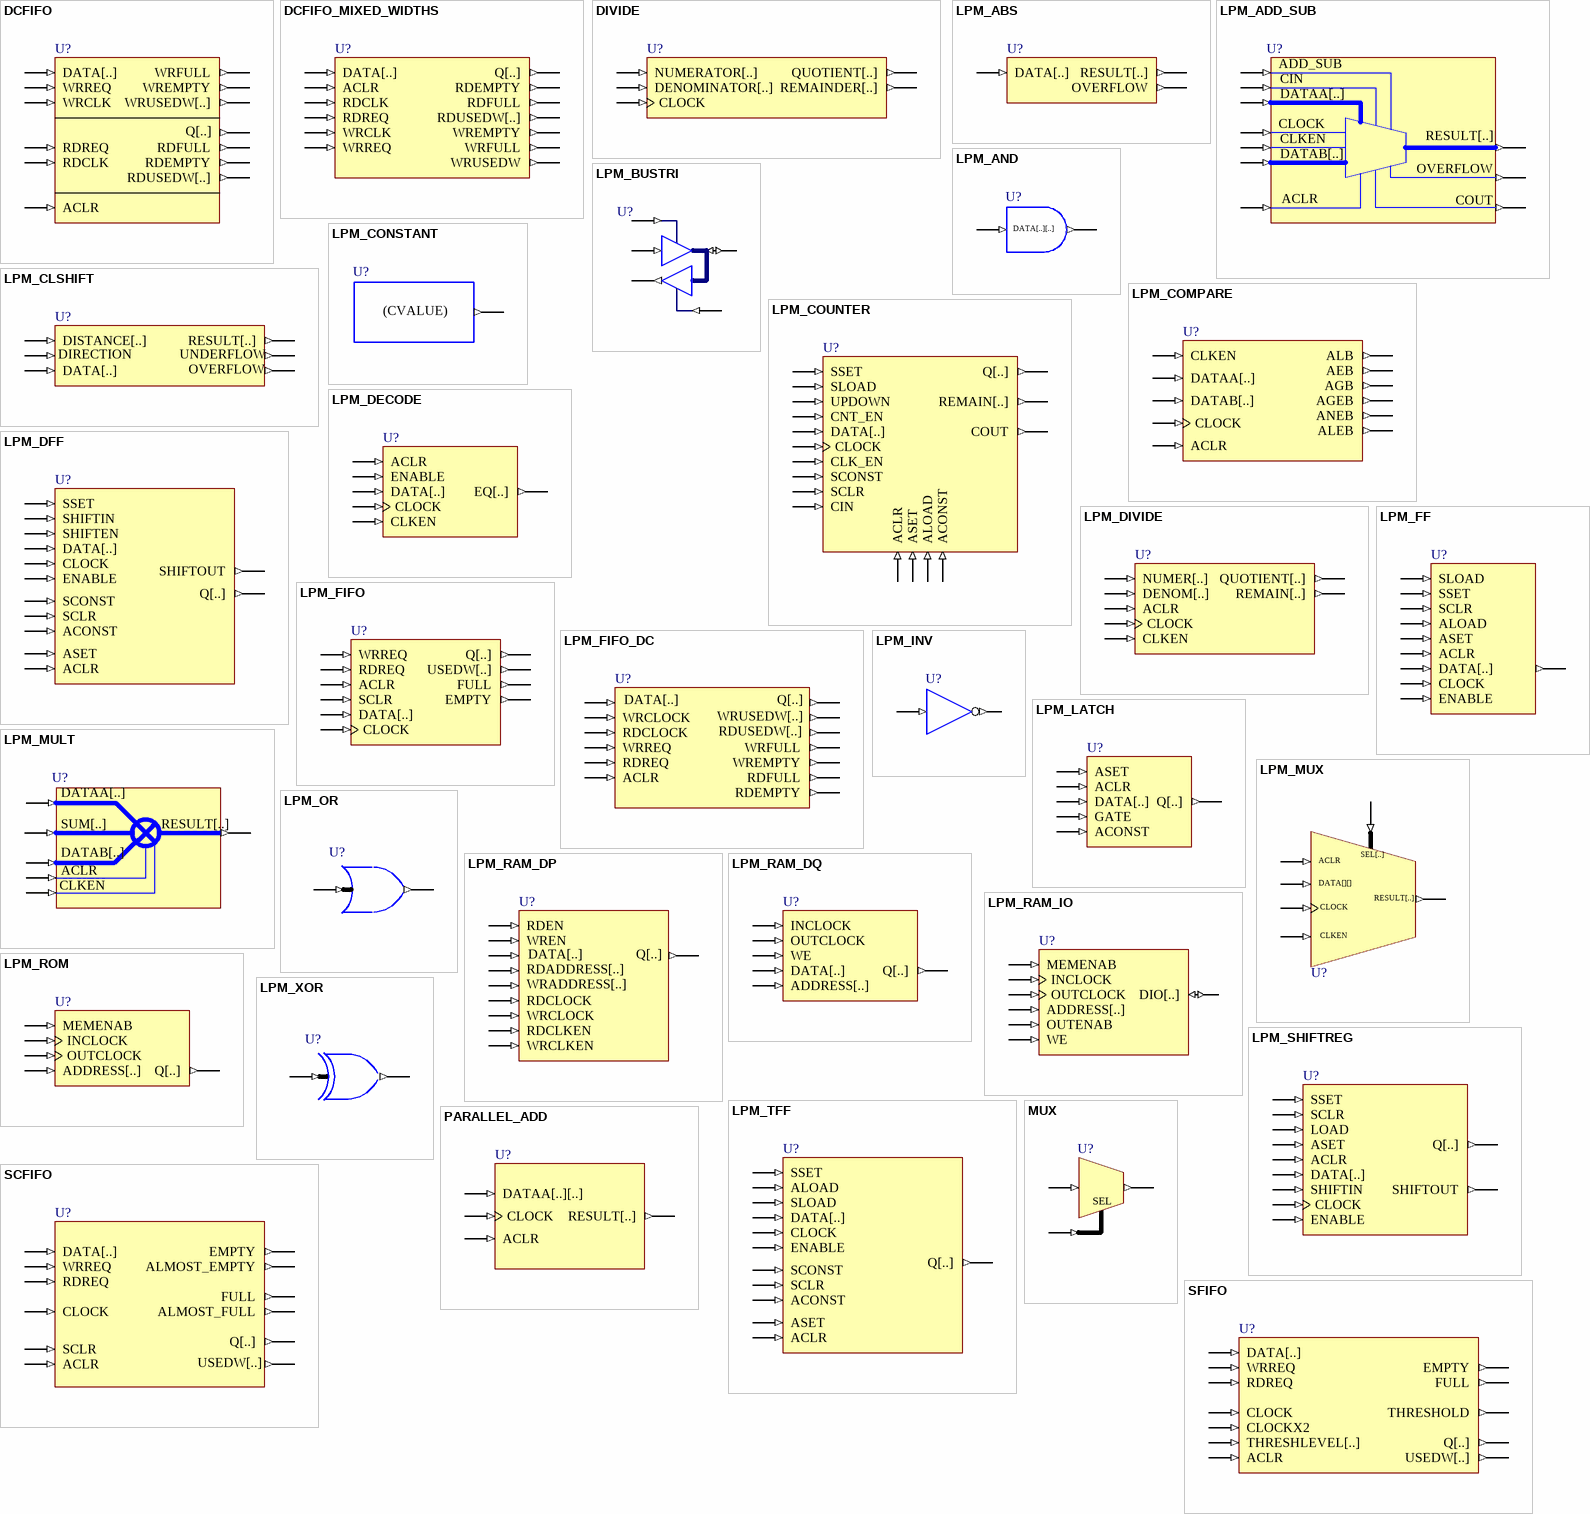
[diagram p3: symbols DCFIFO to SFIFO]

## DCFIFO
designator U?
Dual Clock FIFO; FPGAVendor: Altera; Published: 1-Jun-2007; Publisher: Altium Limited; HelpURL: http://www.altera.com/literature/ug/ug_fifo.pdf
pins: ACLR (in), DATA[..] (in), Q[..] (out), RDCLK (in), RDEMPTY (out), RDFULL (out), RDREQ (in), RDUSEDW[..] (out), WRCLK (in), WREMPTY (out), WRFULL (out), WRREQ (in), WRUSEDW[..] (out)

## DCFIFO_MIXED_WIDTHS
designator U?
FIFO; FPGAVendor: Altera; Published: 1-Jun-2007; Publisher: Altium Limited
pins: ACLR (in), DATA[..] (in), Q[..] (out), RDCLK (in), RDEMPTY (out), RDFULL (out), RDREQ (in), RDUSEDW[..] (out), WRCLK (in), WREMPTY (out), WRFULL (out), WRREQ (in), WRUSEDW (out)

## DIVIDE
designator U?
Divider; FPGAVendor: Altera; Published: 1-Jun-2007; Publisher: Altium Limited; HelpURL: http://www.altera.com/support/kdb/1998/12/rd12151998_1468.html
pins: CLOCK (in), DENOMINATOR[..] (in), NUMERATOR[..] (in), QUOTIENT[..] (out), REMAINDER[..] (out)

## LPM_ABS
designator U?
Absolute Value Function; FPGAVendor: Altera; Published: 1-Jun-2007; Publisher: Altium Limited; HelpURL: http://www.altera.com/literature/ug/ug_lpm_abs.pdf
pins: DATA[..] (in), OVERFLOW (out), RESULT[..] (out)

## LPM_ADD_SUB
designator U?
Adder/Subractor; FPGAVendor: Altera; Published: 1-Jun-2007; Publisher: Altium Limited; HelpURL: http://www.altera.com/literature/ug/ug_lpm_add_sub.pdf
pins: ACLR (in), ADD_SUB (in), CIN (in), CLKEN (in), CLOCK (in), COUT (out), DATAA[..] (in), DATAB[..] (in), OVERFLOW (out), RESULT[..] (out)

## LPM_AND
designator U?
AND Gate; FPGAVendor: Altera; Published: 1-Jun-2007; Publisher: Altium Limited; HelpURL: http://www.altera.com/products/software/products/legacy/maxplus2/sfw-lpm.html
pins: DATA[..][..] (in), RESULT[..] (out)

## LPM_BUSTRI
designator U?
Tri-State Buffer; FPGAVendor: Altera; Published: 1-Jun-2007; Publisher: Altium Limited; HelpURL: http://www.altera.com/products/software/products/legacy/maxplus2/sfw-lpm.html
pins: DATA[..] (in), ENABLEDT (in), ENABLETR (in), RESULT[..] (out), TRIDATA[..] (io)

## LPM_CLSHIFT
designator U?
Combinational Logic Shifter; FPGAVendor: Altera; Published: 1-Jun-2007; Publisher: Altium Limited; HelpURL: http://www.altera.com/products/software/products/legacy/maxplus2/sfw-lpm.html
pins: DATA[..] (in), DIRECTION (in), DISTANCE[..] (in), OVERFLOW (out), RESULT[..] (out), UNDERFLOW (out)

## LPM_COMPARE
designator U?
Comparator; FPGAVendor: Altera; Published: 1-Jun-2007; Publisher: Altium Limited; HelpURL: http://www.altera.com/literature/ug/ug_IP_lpm_compare.pdf
pins: ACLR (in), AEB (out), AGB (out), AGEB (out), ALB (out), ALEB (out), ANEB (out), CLKEN (in), CLOCK (in), DATAA[..] (in), DATAB[..] (in)

## LPM_CONSTANT
designator U?
Constant Generator; FPGAVendor: Altera; Published: 1-Jun-2007; Publisher: Altium Limited; HelpURL: http://www.altera.com/products/software/products/legacy/maxplus2/sfw-lpm.html
pins: RESLT[..] (out)
text: (CVALUE)

## LPM_COUNTER
designator U?
Counter; FPGAVendor: Altera; Published: 1-Jun-2007; Publisher: Altium Limited; HelpURL: http://www.altera.com/literature/ug/ug_lpm_counter_mf.pdf
pins: ACLR (in), ACONST (in), ALOAD (in), ASET (in), CIN (in), CLK_EN (in), CLOCK (in), CNT_EN (in), COUT (out), DATA[..] (in), Q[..] (out), REMAIN[..] (out), SCLR (in), SCONST (in), SLOAD (in), SSET (in), UPDOWN (in)

## LPM_DECODE
designator U?
Decoder; FPGAVendor: Altera; Published: 1-Jun-2007; Publisher: Altium Limited; HelpURL: http://www.altera.com/products/software/products/legacy/maxplus2/sfw-lpm.html
pins: ACLR (in), CLKEN (in), CLOCK (in), DATA[..] (in), ENABLE (in), EQ[..] (out)

## LPM_DFF
designator U?
D-type FlipFlop; FPGAVendor: Altera; Published: 1-Jun-2007; Publisher: Altium Limited; HelpURL: http://www.altera.com/support/software/nativelink/verification/conformal/eda_gid_lec_fv.html
pins: ACLR (in), ACONST (in), ASET (in), CLOCK (in), DATA[..] (in), ENABLE (in), Q[..] (out), SCLR (in), SCONST (in), SHIFTEN (in), SHIFTIN (in), SHIFTOUT (out), SSET (in)

## LPM_DIVIDE
designator U?
Divider; FPGAVendor: Altera; Published: 1-Jun-2007; Publisher: Altium Limited; HelpURL: http://www.altera.com/literature/ug/ug_lpm_divide_mf.pdf
pins: ACLR (in), CLKEN (in), CLOCK (in), DENOM[..] (in), NUMER[..] (in), QUOTIENT[..] (out), REMAIN[..] (out)

## LPM_FF
designator U?
FlipFlop; FPGAVendor: Altera; Published: 1-Jun-2007; Publisher: Altium Limited; HelpURL: http://www.altera.com/support/software/nativelink/verification/conformal/eda_gid_lec_fv.html
pins: ACLR (in), ALOAD (in), ASET (in), CLOCK (in), DATA[..] (in), ENABLE (in), Q[..] (out), SCLR (in), SLOAD (in), SSET (in)

## LPM_FIFO
designator U?
Single Clock FIFO; FPGAVendor: Altera; Published: 1-Jun-2007; Publisher: Altium Limited; HelpURL: http://www.altera.com/support/software/nativelink/verification/conformal/eda_gid_lec_fv.html
pins: ACLR (in), CLOCK (in), DATA[..] (in), EMPTY (out), FULL (out), Q[..] (out), RDREQ (in), SCLR (in), USEDW[..] (out), WRREQ (in)

## LPM_FIFO_DC
designator U?
Dual Clock FIFO; FPGAVendor: Altera; Published: 1-Jun-2007; Publisher: Altium Limited; HelpURL: http://www.altera.com/support/software/nativelink/verification/conformal/eda_gid_lec_fv.html
pins: ACLR (in), DATA[..] (in), Q[..] (out), RDCLOCK (in), RDEMPTY (out), RDFULL (out), RDREQ (in), RDUSEDW[..] (out), WRCLOCK (in), WREMPTY (out), WRFULL (out), WRREQ (in), WRUSEDW[..] (out)

## LPM_INV
designator U?
Inverter; FPGAVendor: Altera; Published: 1-Jun-2007; Publisher: Altium Limited; HelpURL: http://www.altera.com/products/software/products/legacy/maxplus2/sfw-lpm.html
pins: DATA[..] (in), RESULT[..] (out)

## LPM_LATCH
designator U?
Latch; FPGAVendor: Altera; Published: 1-Jun-2007; Publisher: Altium Limited; HelpURL: http://www.altera.com/products/software/products/legacy/maxplus2/sfw-lpm.html
pins: ACLR (in), ACONST (in), ASET (in), DATA[..] (in), GATE (in), Q[..] (out)

## LPM_MULT
designator U?
Basic Multipier; FPGAVendor: Altera; Published: 1-Jun-2007; Publisher: Altium Limited; HelpURL: http://www.altera.com/literature/ug/ug_lpm_mult_mf.pdf
pins: ACLR (in), CLKEN (in), DATAA[..] (in), DATAB[..] (in), RESULT[..] (out), SUM[..] (in)

## LPM_MUX
designator U?
Multiplexer; FPGAVendor: Altera; Published: 1-Jun-2007; Publisher: Altium Limited; HelpURL: http://www.altera.com/products/software/products/legacy/maxplus2/sfw-lpm.html
pins: ACLR (in), CLKEN (in), CLOCK (in), DATA[..][..] (in), RESULT[..] (out), SEL[..] (in)
text: DATA[][]

## LPM_OR
designator U?
OR Gate; FPGAVendor: Altera; Published: 1-Jun-2007; Publisher: Altium Limited; HelpURL: http://www.altera.com/products/software/products/legacy/maxplus2/sfw-lpm.html
pins: DATA[..][..] (in), RESULT[..] (out)

## LPM_RAM_DP
designator U?
Dual Port RAM; FPGAVendor: Altera; Published: 1-Jun-2007; Publisher: Altium Limited; HelpURL: http://www.altera.com/literature/ug/ug_ram.pdf
pins: DATA[..] (in), Q[..] (out), RDADDRESS[..] (in), RDCLKEN (in), RDCLOCK (in), RDEN (in), WRADDRESS[..] (in), WRCLKEN (in), WRCLOCK (in), WREN (in)

## LPM_RAM_DQ
designator U?
Single Port RAM; FPGAVendor: Altera; Published: 1-Jun-2007; Publisher: Altium Limited; HelpURL: http://www.altera.com/literature/ug/ug_ram.pdf
pins: ADDRESS[..] (in), DATA[..] (in), INCLOCK (in), OUTCLOCK (in), Q[..] (out), WE (in)

## LPM_RAM_IO
designator U?
Single Port RAM with shared IO ports; FPGAVendor: Altera; Published: 1-Jun-2007; Publisher: Altium Limited; HelpURL: http://www.altera.com/literature/ug/ug_ram.pdf
pins: ADDRESS[..] (in), DIO[..] (io), INCLOCK (in), MEMENAB (in), OUTCLOCK (in), OUTENAB (in), WE (in)

## LPM_ROM
designator U?
Single Port ROM; FPGAVendor: Altera; Published: 1-Jun-2007; Publisher: Altium Limited; HelpURL: http://www.altera.com/literature/ug/ug_lpm_rom.pdf
pins: ADDRESS[..] (in), INCLOCK (in), MEMENAB (in), OUTCLOCK (in), Q[..] (out)

## LPM_SHIFTREG
designator U?
Shift Register; FPGAVendor: Altera; Published: 1-Jun-2007; Publisher: Altium Limited; HelpURL: http://www.altera.com/literature/ug/lpm_shiftreg.pdf
pins: ACLR (in), ASET (in), CLOCK (in), DATA[..] (in), ENABLE (in), LOAD (in), Q[..] (out), SCLR (in), SHIFTIN (in), SHIFTOUT (out), SSET (in)

## LPM_TFF
designator U?
T-type FlipFlop; FPGAVendor: Altera; Published: 1-Jun-2007; Publisher: Altium Limited; HelpURL: http://www.altera.com/products/software/products/legacy/maxplus2/sfw-lpm.html
pins: ACLR (in), ACONST (in), ALOAD (in), ASET (in), CLOCK (in), DATA[..] (in), ENABLE (in), Q[..] (out), SCLR (in), SCONST (in), SLOAD (in), SSET (in)

## LPM_XOR
designator U?
XOR Gate; FPGAVendor: Altera; Published: 1-Jun-2007; Publisher: Altium Limited; HelpURL: http://www.altera.com/products/software/products/legacy/maxplus2/sfw-lpm.html
pins: DATA[..][..] (in), RESULT[LPM_WIDTH-1..0] (out)

## MUX
designator U?
Multiplexer; FPGAVendor: Altera; Published: 1-Jun-2007; Publisher: Altium Limited; HelpURL: http://www.altera.com/support/kdb/1998/11/rd11031998_9606.html
pins: DATA[..] (in), RESULT (out), SEL[..] (in)
text: SEL

## PARALLEL_ADD
designator U?
Adder/Subractor; FPGAVendor: Altera; Published: 1-Jun-2007; Publisher: Altium Limited; HelpURL: http://www.altera.com/literature/ug/ug_parallel_add_mf.pdf
pins: ACLR (in), CLOCK (in), DATAA[..][..] (in), RESULT[..] (out)

## SCFIFO
designator U?
Single Clock FIFO; FPGAVendor: Altera; Published: 1-Jun-2007; Publisher: Altium Limited; HelpURL: http://www.altera.com/literature/ug/ug_fifo.pdf
pins: ACLR (in), ALMOST_EMPTY (out), ALMOST_FULL (out), CLOCK (in), DATA[..] (in), EMPTY (out), FULL (out), Q[..] (out), RDREQ (in), SCLR (in), USEDW[..] (out), WRREQ (in)

## SFIFO
designator U?
FIFO; FPGAVendor: Altera; Note: see Quartus Tool; Published: 1-Jun-2007; Publisher: Altium Limited
pins: ACLR (in), CLOCK (in), CLOCKX2 (in), DATA[..] (in), EMPTY (out), FULL (out), Q[..] (out), RDREQ (in), THRESHLEVEL[..] (in), THRESHOLD (out), USEDW[..] (out), WRREQ (in)

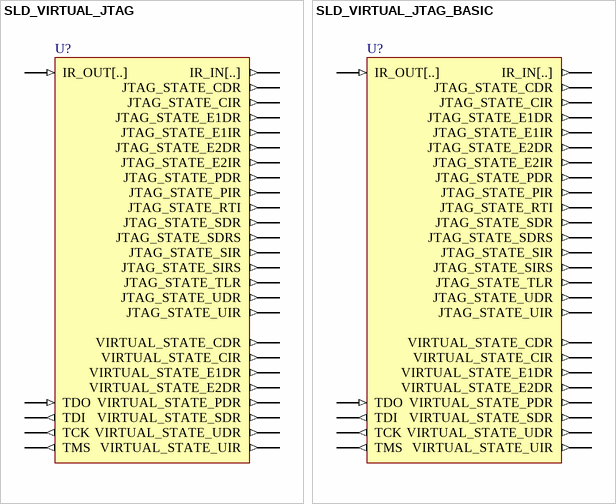
[diagram p4: symbols SLD_VIRTUAL_JTAG to SLD_VIRTUAL_JTAG_BASIC]

## SLD_VIRTUAL_JTAG
designator U?
Virtual JTAG; FPGAVendor: Altera; Published: 1-Jun-2007; Publisher: Altium Limited; HelpURL: http://www.altera.com/literature/ug/ug_virtualjtag.pdf
pins: IR_IN[..] (out), IR_OUT[..] (in), JTAG_STATE_CDR (out), JTAG_STATE_CIR (out), JTAG_STATE_E1DR (out), JTAG_STATE_E1IR (out), JTAG_STATE_E2DR (out), JTAG_STATE_E2IR (out), JTAG_STATE_PDR (out), JTAG_STATE_PIR (out), JTAG_STATE_RTI (out), JTAG_STATE_SDR (out), JTAG_STATE_SDRS (out), JTAG_STATE_SIR (out), JTAG_STATE_SIRS (out), JTAG_STATE_TLR (out), JTAG_STATE_UDR (out), JTAG_STATE_UIR (out), TCK (out), TDI (out), TDO (in), TMS (out), VIRTUAL_STATE_CDR (out), VIRTUAL_STATE_CIR (out), VIRTUAL_STATE_E1DR (out), VIRTUAL_STATE_E2DR (out), VIRTUAL_STATE_PDR (out), VIRTUAL_STATE_SDR (out), VIRTUAL_STATE_UDR (out), VIRTUAL_STATE_UIR (out)

## SLD_VIRTUAL_JTAG_BASIC
designator U?
Virtual JTAG Basic; FPGAVendor: Altera; Published: 1-Jun-2007; Publisher: Altium Limited; HelpURL: http://www.altera.com/literature/ug/ug_virtualjtag.pdf
pins: IR_IN[..] (out), IR_OUT[..] (in), JTAG_STATE_CDR (out), JTAG_STATE_CIR (out), JTAG_STATE_E1DR (out), JTAG_STATE_E1IR (out), JTAG_STATE_E2DR (out), JTAG_STATE_E2IR (out), JTAG_STATE_PDR (out), JTAG_STATE_PIR (out), JTAG_STATE_RTI (out), JTAG_STATE_SDR (out), JTAG_STATE_SDRS (out), JTAG_STATE_SIR (out), JTAG_STATE_SIRS (out), JTAG_STATE_TLR (out), JTAG_STATE_UDR (out), JTAG_STATE_UIR (out), TCK (out), TDI (out), TDO (in), TMS (out), VIRTUAL_STATE_CDR (out), VIRTUAL_STATE_CIR (out), VIRTUAL_STATE_E1DR (out), VIRTUAL_STATE_E2DR (out), VIRTUAL_STATE_PDR (out), VIRTUAL_STATE_SDR (out), VIRTUAL_STATE_UDR (out), VIRTUAL_STATE_UIR (out)